# Altium footprint library STC封装库.PCBLIB: 22 footprints (part 1 of 2)
Each footprint in its own frame and in the unit in brackets; x right, y up, seen from the top. Pads: shape width x height; smd on the part's side, far side on the other; paste and mask are expansions set on the pad; w line width, h text height; cw(c..) or ccw(c..) is an arc to the next point about the centre after c.
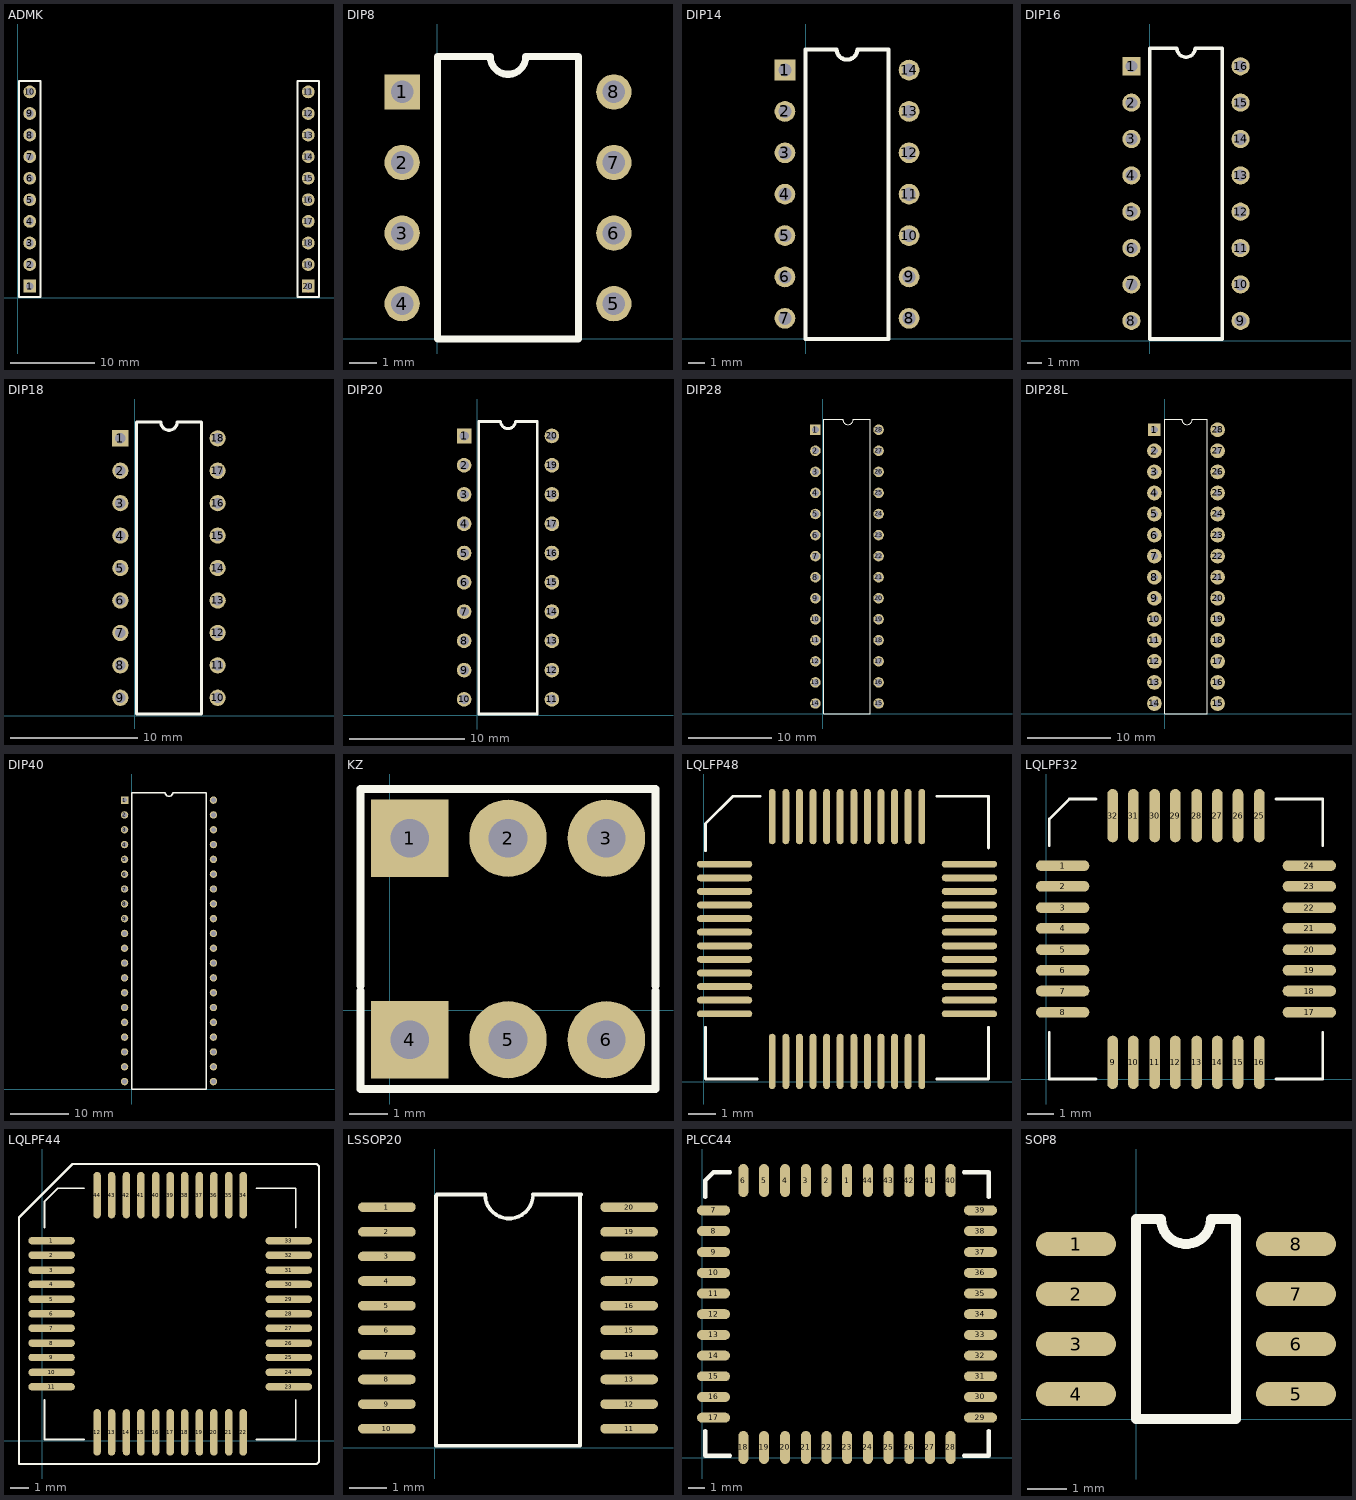
[diagram p0: the footprints below, top view; thin cyan lines are the x and y axes]

## ADMK [mm]
pads (20):
  rect 1.5x1.5 hole 0.9: 1(1.397,1.397) 20(34.163,1.397)
  round 1.5 hole 0.9: 2(1.397,3.937) 3(1.397,6.477) 4(1.397,9.017) 5(1.397,11.557) 6(1.397,14.097) 7(1.397,16.637) 8(1.397,19.177) 9(1.397,21.717) 10(1.397,24.257) 11(34.163,24.257) 12(34.163,21.717) 13(34.163,19.177) 14(34.163,16.637) 15(34.163,14.097) 16(34.163,11.557) 17(34.163,9.017) 18(34.163,6.477) 19(34.163,3.937)
Top Layer:
  lines w0.254: 1.143,1.397 1.651,1.397 ; 1.397,1.143 1.397,1.651 ; 33.909,1.016 34.417,1.016 ; 34.163,0.762 34.163,1.27
Top Overlay:
  lines w0.2: 0.127,0.127 2.667,0.127 2.667,25.527 0.127,25.527 0.127,2.032 0.127,0.127 ; 32.893,0.127 32.893,2.032 32.893,25.527 35.433,25.527 35.433,0.127 32.893,0.127

## DIP8 [mil] "STC"
pads (8):
  rect 50x50 hole 32: 1(-50,350)
  round 50 hole 32: 2(-50,250) 3(-50,150) 4(-50,50) 5(250,50) 6(250,150) 7(250,250) 8(250,350)
Top Overlay:
  lines w10: 0,0 200,0 200,400 125,400 cw(c100,400) 75,400 0,400 0,0

## DIP14 [mil] "STC"
pads (14):
  rect 50x50 hole 32: 1(-50,650)
  round 50 hole 32: 2(-50,550) 3(-50,450) 4(-50,350) 5(-50,250) 6(-50,150) 7(-50,50) 8(250,50) 9(250,150) 10(250,250) 11(250,350) 12(250,450) 13(250,550) 14(250,650)
Top Overlay:
  lines w10: 0,0 0,700 75,700 ccw(c100,700) 125,700 200,700 200,0 0,0

## DIP16 [mil] "STC"
pads (16):
  rect 50x50 hole 32: 1(-50,755)
  round 50 hole 32: 2(-50,655) 3(-50,555) 4(-50,455) 5(-50,355) 6(-50,255) 7(-50,155) 8(-50,55) 9(250,55) 10(250,155) 11(250,255) 12(250,355) 13(250,455) 14(250,555) 15(250,655) 16(250,755)
Top Overlay:
  lines w10: 0,5 0,805 75,805 ccw(c100,805) 125,805 200,805 200,5 0,5

## DIP18 [mil] "STC"
pads (18):
  rect 50x50 hole 32: 1(-45,855)
  round 50 hole 32: 2(-45,755) 3(-45,655) 4(-45,555) 5(-45,455) 6(-45,355) 7(-45,255) 8(-45,155) 9(-45,55) 10(255,55) 11(255,155) 12(255,255) 13(255,355) 14(255,455) 15(255,555) 16(255,655) 17(255,755) 18(255,855)
Top Overlay:
  lines w10: 5,5 5,905 80,905 ccw(c105,905) 130,905 205,905 205,5 5,5

## DIP20 [mil] "STC"
pads (20):
  rect 50x50 hole 32: 1(-45,955)
  round 50 hole 32: 2(-45,855) 3(-45,755) 4(-45,655) 5(-45,555) 6(-45,455) 7(-45,355) 8(-45,255) 9(-45,155) 10(-45,55) 11(255,55) 12(255,155) 13(255,255) 14(255,355) 15(255,455) 16(255,555) 17(255,655) 18(255,755) 19(255,855) 20(255,955)
Top Overlay:
  lines w10: 5,5 205,5 205,1005 130,1005 cw(c105,1005) 80,1005 5,1005 5,5

## DIP28 [mil] "STC"
pads (28):
  rect 50x50 hole 32: 1(-35,1350)
  round 50 hole 32: 2(-35,1250) 3(-35,1150) 4(-35,1050) 5(-35,950) 6(-35,850) 7(-35,750) 8(-35,650) 9(-35,550) 10(-35,450) 11(-35,350) 12(-35,250) 13(-35,150) 14(-35,50) 15(265,50) 16(265,150) 17(265,250) 18(265,350) 19(265,450) 20(265,550) 21(265,650) 22(265,750) 23(265,850) 24(265,950) 25(265,1050) 26(265,1150) 27(265,1250) 28(265,1350)
Top Overlay:
  lines w4: 5,0 225,0 225,1400 145,1400 cw(c120,1400) 95,1400 5,1400 5,0

## DIP28L [mil] "STC"
pads (28):
  rect 60x60 hole 32: 1(-50,1350)
  round 70 hole 32: 2(-50,1250) 3(-50,1150) 4(-50,1050) 5(-50,950) 6(-50,850) 7(-50,750) 8(-50,650) 9(-50,550) 10(-50,450) 11(-50,350) 12(-50,250) 13(-50,150) 14(-50,50) 15(250,50) 16(250,150) 17(250,250) 18(250,350) 19(250,450) 20(250,550) 21(250,650) 22(250,750) 23(250,850) 24(250,950) 25(250,1050) 26(250,1150) 27(250,1250) 28(250,1350)
Top Overlay:
  lines w4: 0,0 0,1400 80,1400 ccw(c105,1400) 130,1400 200,1400 200,0 0,0

## DIP40 [mil] "STC"
pads (40):
  rect 50x50 hole 32: 1(-50,1950)
  round 50 hole 32: 2(-50,1850) 3(-50,1750) 4(-50,1650) 5(-50,1550) 6(-50,1450) 7(-50,1350) 8(-50,1250) 9(-50,1150) 10(-50,1050) 11(-50,950) 12(-50,850) 13(-50,750) 14(-50,650) 15(-50,550) 16(-50,450) 17(-50,350) 18(-50,250) 19(-50,150) 20(-50,50) 21(550,50) 22(550,150) 23(550,250) 24(550,350) 25(550,450) 26(550,550) 27(550,650) 28(550,750) 29(550,850) 30(550,950) 31(550,1050) 32(550,1150) 33(550,1250) 34(550,1350) 35(550,1450) 36(550,1550) 37(550,1650) 38(550,1750) 39(550,1850) 40(550,1950)
Top Overlay:
  lines w10: 0,0 500,0 500,2000 275,2000 cw(c250,2000) 225,2000 0,2000 0,0

## KZ [mm]
pads (6):
  rect 2x2 hole 1: 1(0.508,4.445) 4(0.508,-0.762)
  round 2 hole 1: 2(3.048,4.445) 3(5.588,4.445) 5(3.048,-0.762) 6(5.588,-0.762)
Top Overlay:
  lines w0.2: -0.762,0.508 -0.762,-2.032 6.858,-2.032 6.858,0.508 ; -0.762,0.635 -0.762,3.175 -0.762,5.715 6.858,5.715 6.858,3.175 6.858,0.635

## LQLFP48 [mil] "STC"
pads (48):
  oval 80x10 smd: 1(30,315) 2(30,295.31) 3(30,275.63) 4(30,255.94) 5(30,236.26) 6(30,216.57) 7(30,196.89) 8(30,177.2) 9(30,157.52) 10(30,137.83) 11(30,118.15) 12(30,98.46) 25(384.33,98.46) 26(384.33,118.15) 27(384.33,137.83) 28(384.33,157.52) 29(384.33,177.2) 30(384.33,196.89) 31(384.33,216.57) 32(384.33,236.26) 33(384.33,255.94) 34(384.33,275.63) 35(384.33,295.31) 36(384.33,315)
  oval 10x80 smd: 13(98.9,29.57) 14(118.58,29.57) 15(138.27,29.57) 16(157.95,29.57) 17(177.64,29.57) 18(197.32,29.57) 19(217.01,29.57) 20(236.69,29.57) 21(256.38,29.57) 22(276.06,29.57) 23(295.75,29.57) 24(315.43,29.57) 37(315.43,383.9) 38(295.75,383.9) 39(276.06,383.9) 40(256.38,383.9) 41(236.69,383.9) 42(217.01,383.9) 43(197.32,383.9) 44(177.64,383.9) 45(157.95,383.9) 46(138.27,383.9) 47(118.58,383.9) 48(98.9,383.9)
Top Overlay:
  lines w3.94: 2.44,78.78 2.44,3.98 77.24,3.98 ; 2.44,334.69 2.44,374.06 41.81,413.43 81.18,413.43 ; 337.09,3.98 411.89,3.98 411.89,78.78 ; 337.09,413.43 411.89,413.43 411.89,338.62

## LQLPF32 [mil] "STC"
pads (32):
  oval 80x16 smd: 1(25,320) 2(25,289) 3(25,257) 4(25,226) 5(25,194) 6(25,163) 7(25,132) 8(25,100) 17(395,100) 18(395,132) 19(395,163) 20(395,194) 21(395,226) 22(395,257) 23(395,289) 24(395,320)
  oval 16x80 smd: 9(100,25) 10(131,25) 11(163,25) 12(194,25) 13(226,25) 14(257,25) 15(288,25) 16(320,25) 25(320,395) 26(288,395) 27(257,395) 28(226,395) 29(194,395) 30(163,395) 31(131,395) 32(100,395)
Top Overlay:
  lines w4: 5,70 5,0 75,0 ; 5,350 5,390 35,420 75,420 ; 345,0 415,0 415,70 ; 345,420 415,420 415,350

## LQLPF44 [mil] "STC"
pads (44):
  oval 100x16 smd: 1(20,430) 2(20,399) 3(20,367) 4(20,336) 5(20,304) 6(20,273) 7(20,242) 8(20,210) 9(20,179) 10(20,147) 11(20,116) 23(530,116) 24(530,147) 25(530,179) 26(530,210) 27(530,242) 28(530,273) 29(530,304) 30(530,336) 31(530,367) 32(530,399) 33(530,430)
  oval 16x100 smd: 12(118,18) 13(149,18) 14(181,18) 15(212,18) 16(244,18) 17(275,18) 18(306,18) 19(338,18) 20(369,18) 21(401,18) 22(432,18) 34(432,528) 35(401,528) 36(369,528) 37(338,528) 38(306,528) 39(275,528) 40(244,528) 41(212,528) 42(181,528) 43(149,528) 44(118,528)
Top Overlay:
  lines w4: 5,88 5,3 90,3 ; 5,458 5,515 33,543 90,543 ; 460,3 545,3 545,88 ; 460,543 545,543 545,458
  lines w5: -50,-50 -50,480 65,595 590,595 595,590 595,-45 590,-50 -50,-50

## LSSOP20 [mil] "STC"
pads (20):
  oval 60x10 smd: 1(-50,250) 2(-50,224.41) 3(-50,198.82) 4(-50,173.23) 5(-50,147.64) 6(-50,122.05) 7(-50,96.46) 8(-50,70.87) 9(-50,45.28) 10(-50,19.68) 11(201.97,19.68) 12(201.97,45.28) 13(201.97,70.87) 14(201.97,96.46) 15(201.97,122.05) 16(201.97,147.64) 17(201.97,173.23) 18(201.97,198.82) 19(201.97,224.41) 20(201.97,250)
Top Overlay:
  lines w3.94: 1.18,261.81 1.18,1.97 150.79,1.97 150.79,261.81 ; 2.13,263.19 52.13,263.19 ccw(c77.13,263.19) 102.13,263.19 152.13,263.19

## PLCC44 [mil] "STC"
pads (44):
  oct 24x80 smd: 1(350,670)
  oval 24x80 smd: 2(300,670) 3(250,670) 4(200,670) 5(149,670) 6(99,670) 18(99,25) 19(149,25) 20(200,25) 21(250,25) 22(300,25) 23(350,25) 24(400,25) 25(450,25) 26(500,25) 27(550,25) 28(600,25) 40(600,670) 41(550,670) 42(500,670) 43(450,670) 44(400,670)
  oval 80x24 smd: 7(27,598) 8(27,548) 9(27,497) 10(27,447) 11(27,397) 12(27,347) 13(27,297) 14(27,247) 15(27,197) 16(27,147) 17(27,97) 29(672,97) 30(672,147) 31(672,197) 32(672,247) 33(672,297) 34(672,347) 35(672,397) 36(672,447) 37(672,497) 38(672,548) 39(672,598)
Top Overlay:
  lines w10: 7,65 7,5 67,5 ; 7,630 7,670 27,690 67,690 ; 632,5 692,5 692,65 ; 632,690 692,690 692,630

## SOP8 [mil] "STC"
pads (8):
  oval 80x24 smd: 1(-60,175) 2(-60,125) 3(-60,75) 4(-60,25) 5(160,25) 6(160,75) 7(160,125) 8(160,175)
Top Overlay:
  lines w10: 0,0 0,200 25,200 ccw(c50,200) 75,200 100,200 100,0 0,0